# Altium footprint library Connector_Harwin.PcbLib: 102 footprints (part 3 of 7)
Each footprint in its own frame and in the unit in brackets; x right, y up, seen from the top. Pads: shape width x height; smd on the part's side, far side on the other; paste and mask are expansions set on the pad; w line width, h text height; cw(c..) or ccw(c..) is an arc to the next point about the centre after c.
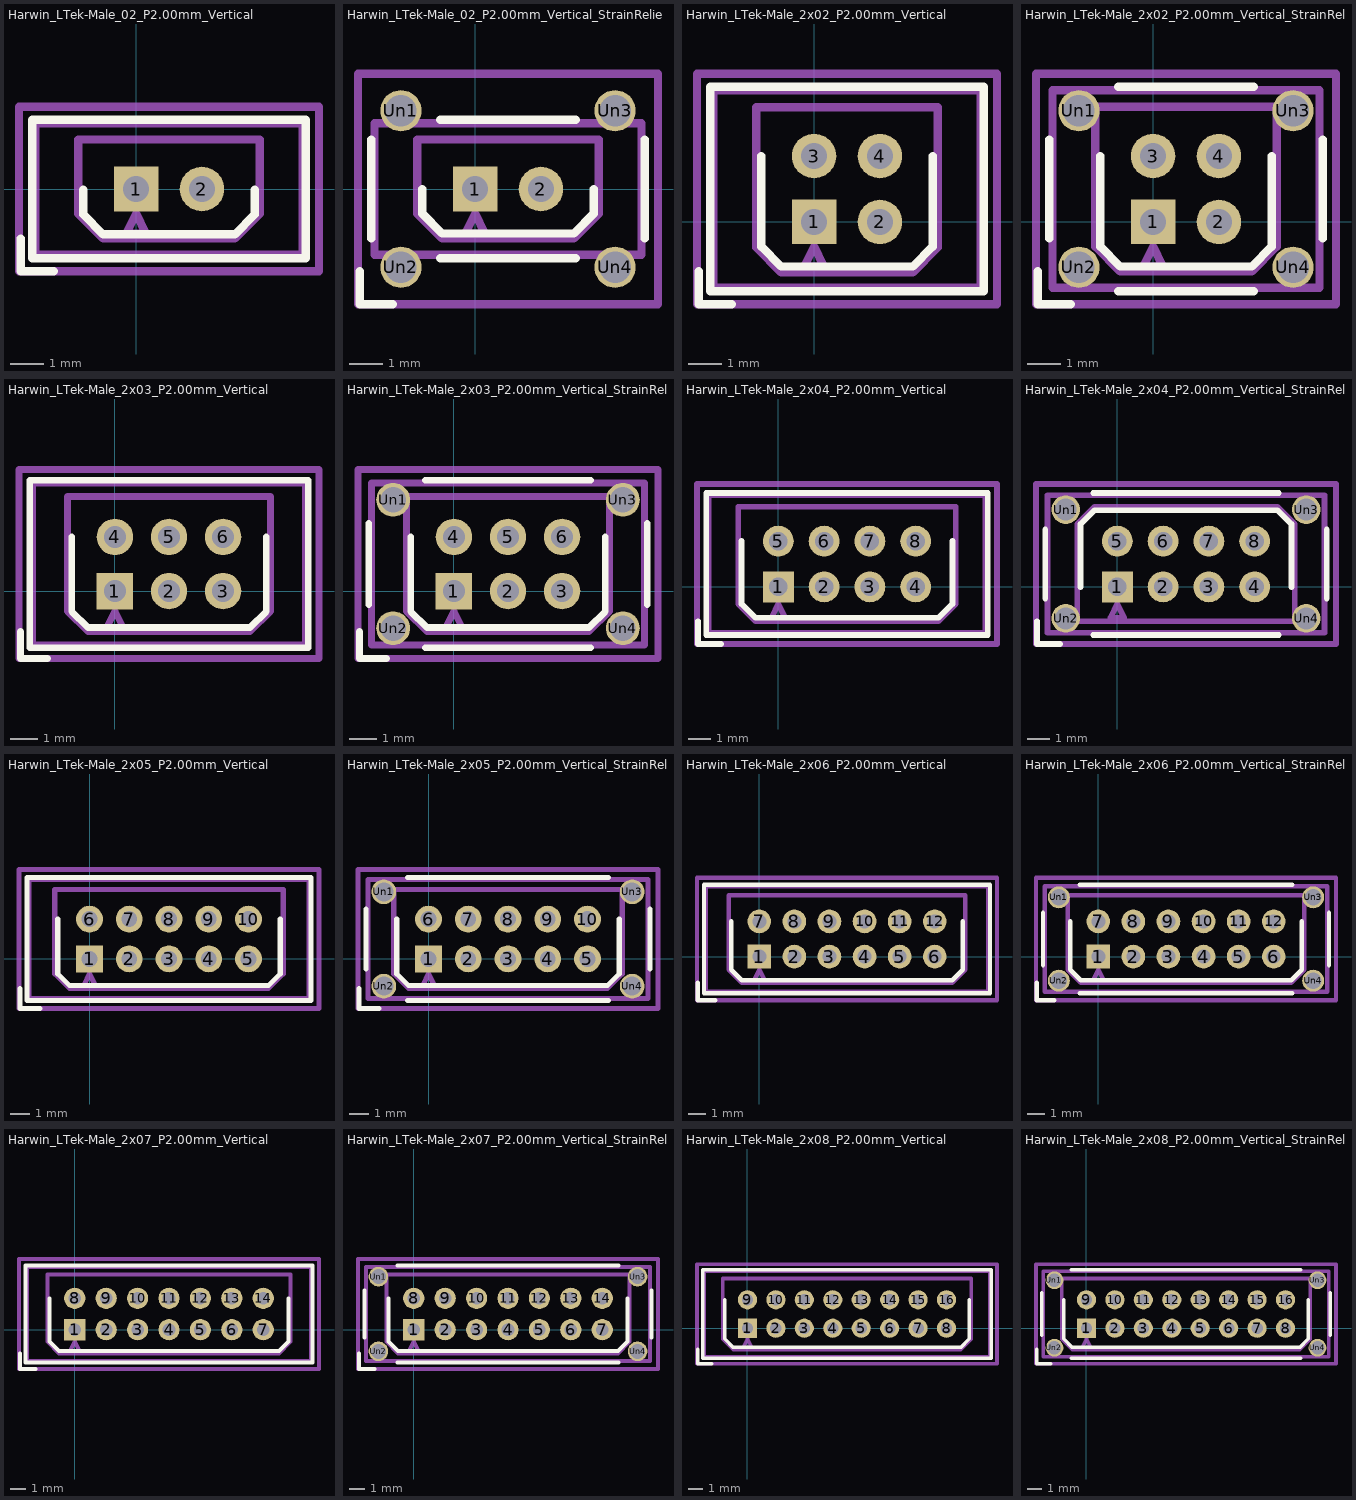
[diagram p2: the footprints below, top view; thin cyan lines are the x and y axes]

## Harwin_LTek-Male_02_P2.00mm_Vertical [mm]
pads (2):
  rect 1.35x1.35 hole 0.8: 1(0,0)
  round 1.35 hole 0.8: 2(2,0)
F.SilkS:
  lines w0.254: -3.5,-1.5 -3.5,-2.5 -2.5,-2.5 ; -1.6,-0.025 -1.6,-0.775 -1,-1.375 1,-1.375 3,-1.375 3.6,-0.775 3.6,-0.025 ; -3.15,-2.1 5.15,-2.1 5.15,2.1 -3.15,2.1 -3.15,-2.1
Top Assembly:
  lines w0.254: -3.05,-2 5.05,-2 5.05,2 -3.05,2 -3.05,-2 ; -1.75,-0.75 -1,-1.5 3,-1.5 3.75,-0.75 3.75,1.5 -1.75,1.5 -1.75,-0.75 ; -0.3,-1.35 0,-0.75 0.3,-1.35 -0.3,-1.35
  text "'.Designator'" at -3.047,-0.84 h1
Top Courtyard:
  lines w0.254: -3.55,-2.5 5.55,-2.5 5.55,2.5 -3.55,2.5 -3.55,-2.5
Top Designator:
  text ".Designator" at -6.618,-0.508 h1.52

## Harwin_LTek-Male_02_P2.00mm_Vertical_StrainRelief [mm]
pads (6):
  rect 1.35x1.35 hole 0.8: 1(0,0)
  round 1.35 hole 0.8: 2(2,0)
  round 1.25 hole 0.95: Un1(-2.25,2.375) Un2(-2.25,-2.375) Un3(4.25,2.375) Un4(4.25,-2.375)
F.SilkS:
  lines w0.254: -3.5,-2.5 -3.5,-3.5 -2.5,-3.5 ; -3.15,-1.5 -3.15,1.5 ; -1.6,0 -1.6,-0.75 -1,-1.35 1,-1.35 3,-1.35 3.6,-0.75 3.6,0 ; -1.05,-2.1 3.05,-2.1 ; -1.05,2.1 3.05,2.1 ; 5.15,-1.5 5.15,1.5
Top Assembly:
  lines w0.254: -3.05,-2 5.05,-2 5.05,2 -3.05,2 -3.05,-2 ; -1.75,-0.75 -1,-1.5 3,-1.5 3.75,-0.75 3.75,1.5 -1.75,1.5 -1.75,-0.75 ; -0.3,-1.35 0,-0.75 0.3,-1.35 -0.3,-1.35
  text "'.Designator'" at -3.047,-0.84 h1
Top Courtyard:
  lines w0.254: -3.55,-3.5 5.55,-3.5 5.55,3.5 -3.55,3.5 -3.55,-3.5
Top Designator:
  text ".Designator" at -6.618,-0.508 h1.52

## Harwin_LTek-Male_2x02_P2.00mm_Vertical [mm]
pads (4):
  rect 1.35x1.35 hole 0.8: 1(0,0)
  round 1.35 hole 0.8: 2(2,0) 3(0,2) 4(2,2)
F.SilkS:
  lines w0.254: -3.5,-1.5 -3.5,-2.5 -2.5,-2.5 ; -1.6,2 -1.6,-0.75 -1,-1.35 1,-1.35 3,-1.35 3.6,-0.75 3.6,2 ; -3.15,-2.1 5.15,-2.1 5.15,4.1 -3.15,4.1 -3.15,-2.1
Top Assembly:
  lines w0.254: -3.05,-2 5.05,-2 5.05,4 -3.05,4 -3.05,-2 ; -1.75,-0.775 -1,-1.525 3,-1.525 3.75,-0.775 3.75,3.475 -1.75,3.475 -1.75,-0.775 ; -0.3,-1.35 0,-0.75 0.3,-1.35 -0.3,-1.35
  text "'.Designator'" at -3.047,-0.84 h1
Top Courtyard:
  lines w0.254: -3.55,-2.5 5.55,-2.5 5.55,4.5 -3.55,4.5 -3.55,-2.5
Top Designator:
  text ".Designator" at -6.618,0.492 h1.52

## Harwin_LTek-Male_2x02_P2.00mm_Vertical_StrainRelief [mm]
pads (8):
  rect 1.35x1.35 hole 0.8: 1(0,0)
  round 1.35 hole 0.8: 2(2,0) 3(0,2) 4(2,2)
  round 1.25 hole 0.95: Un1(-2.25,3.375) Un2(-2.25,-1.375) Un3(4.25,3.375) Un4(4.25,-1.375)
F.SilkS:
  lines w0.254: -3.5,-1.5 -3.5,-2.5 -2.5,-2.5 ; -3.15,-0.5 -3.15,2.5 ; -1.6,2 -1.6,-0.75 -1,-1.35 1,-1.35 3,-1.35 3.6,-0.75 3.6,2 ; -1.05,-2.1 3.05,-2.1 ; -1.05,4.1 3.05,4.1 ; 5.15,-0.5 5.15,2.5
Top Assembly:
  lines w0.254: -3.05,-2 5.05,-2 5.05,4 -3.05,4 -3.05,-2 ; -1.75,-0.75 -1,-1.5 3,-1.5 3.75,-0.75 3.75,3.5 -1.75,3.5 -1.75,-0.75 ; -0.3,-1.35 0,-0.75 0.3,-1.35 -0.3,-1.35
  text "'.Designator'" at -3.047,-0.84 h1
Top Courtyard:
  lines w0.254: -3.55,-2.5 5.55,-2.5 5.55,4.5 -3.55,4.5 -3.55,-2.5
Top Designator:
  text ".Designator" at -6.618,0.492 h1.52

## Harwin_LTek-Male_2x03_P2.00mm_Vertical [mm]
pads (6):
  rect 1.35x1.35 hole 0.8: 1(0,0)
  round 1.35 hole 0.8: 2(2,0) 3(4,0) 4(0,2) 5(2,2) 6(4,2)
F.SilkS:
  lines w0.254: -3.5,-1.5 -3.5,-2.5 -2.5,-2.5 ; -1.6,2 -1.6,-0.75 -1,-1.35 2,-1.35 5,-1.35 5.6,-0.75 5.6,2 ; -3.15,-2.1 7.15,-2.1 7.15,4.1 -3.15,4.1 -3.15,-2.1
Top Assembly:
  lines w0.254: -3.05,-2 7.05,-2 7.05,4 -3.05,4 -3.05,-2 ; -1.75,-0.75 -1,-1.5 5,-1.5 5.75,-0.75 5.75,3.5 -1.75,3.5 -1.75,-0.75 ; -0.3,-1.35 0,-0.75 0.3,-1.35 -0.3,-1.35
  text "'.Designator'" at -2.047,-0.84 h1
Top Courtyard:
  lines w0.254: -3.55,-2.5 7.55,-2.5 7.55,4.5 -3.55,4.5 -3.55,-2.5
Top Designator:
  text ".Designator" at -5.618,0.492 h1.52

## Harwin_LTek-Male_2x03_P2.00mm_Vertical_StrainRelief [mm]
pads (10):
  rect 1.35x1.35 hole 0.8: 1(0,0)
  round 1.35 hole 0.8: 2(2,0) 3(4,0) 4(0,2) 5(2,2) 6(4,2)
  round 1.25 hole 0.95: Un1(-2.25,3.375) Un2(-2.25,-1.375) Un3(6.25,3.375) Un4(6.25,-1.375)
F.SilkS:
  lines w0.254: -3.5,-1.5 -3.5,-2.5 -2.5,-2.5 ; -3.15,-0.5 -3.15,2.5 ; -1.6,2 -1.6,-0.75 -1,-1.35 2,-1.35 5,-1.35 5.6,-0.75 5.6,2 ; -1.05,-2.1 5.05,-2.1 ; -1.05,4.1 5.05,4.1 ; 7.15,-0.5 7.15,2.5
Top Assembly:
  lines w0.254: -3.05,-2 7.05,-2 7.05,4 -3.05,4 -3.05,-2 ; -1.75,-0.75 -1,-1.5 5,-1.5 5.75,-0.75 5.75,3.5 -1.75,3.5 -1.75,-0.75 ; -0.3,-1.35 0,-0.75 0.3,-1.35 -0.3,-1.35
  text "'.Designator'" at -2.047,-0.84 h1
Top Courtyard:
  lines w0.254: -3.55,-2.5 7.55,-2.5 7.55,4.5 -3.55,4.5 -3.55,-2.5
Top Designator:
  text ".Designator" at -5.618,0.492 h1.52

## Harwin_LTek-Male_2x04_P2.00mm_Vertical [mm]
pads (8):
  rect 1.35x1.35 hole 0.8: 1(0,0)
  round 1.35 hole 0.8: 2(2,0) 3(4,0) 4(6,0) 5(0,2) 6(2,2) 7(4,2) 8(6,2)
F.SilkS:
  lines w0.254: -3.5,-1.5 -3.5,-2.5 -2.5,-2.5 ; -1.6,2 -1.6,-0.75 -1,-1.35 3,-1.35 7,-1.35 7.6,-0.75 7.6,2 ; -3.15,-2.1 9.15,-2.1 9.15,4.1 -3.15,4.1 -3.15,-2.1
Top Assembly:
  lines w0.254: -3.05,-2 9.05,-2 9.05,4 -3.05,4 -3.05,-2 ; -1.75,-0.75 -1,-1.5 7,-1.5 7.75,-0.75 7.75,3.5 -1.75,3.5 -1.75,-0.75 ; -0.3,-1.35 0,-0.75 0.3,-1.35 -0.3,-1.35
  text "'.Designator'" at -1.047,-0.84 h1
Top Courtyard:
  lines w0.254: -3.55,-2.5 9.55,-2.5 9.55,4.5 -3.55,4.5 -3.55,-2.5
Top Designator:
  text ".Designator" at -4.618,0.492 h1.52

## Harwin_LTek-Male_2x04_P2.00mm_Vertical_StrainRelief [mm]
pads (12):
  rect 1.35x1.35 hole 0.8: 1(0,0)
  round 1.35 hole 0.8: 2(2,0) 3(4,0) 4(6,0) 5(0,2) 6(2,2) 7(4,2) 8(6,2)
  round 1.25 hole 0.95: Un1(-2.25,3.375) Un2(-2.25,-1.375) Un3(8.25,3.375) Un4(8.25,-1.375)
F.SilkS:
  lines w0.254: -3.5,-1.5 -3.5,-2.5 -2.5,-2.5 ; -3.15,-0.5 -3.15,2.5 ; -1.6,0 -1.6,2.75 -1,3.35 3,3.35 7,3.35 7.6,2.75 7.6,0 ; -1.05,-2.1 7.05,-2.1 ; -1.05,4.1 7.05,4.1 ; 9.15,-0.5 9.15,2.5
Top Assembly:
  lines w0.254: -3.05,-2 9.05,-2 9.05,4 -3.05,4 -3.05,-2 ; -1.75,-1.5 7.75,-1.5 7.75,2.75 7,3.5 -1,3.5 -1.75,2.75 -1.75,-1.5 ; -0.3,-1.35 0,-0.75 0.3,-1.35 -0.3,-1.35
  text "'.Designator'" at -1.047,-0.84 h1
Top Courtyard:
  lines w0.254: -3.55,-2.5 9.55,-2.5 9.55,4.5 -3.55,4.5 -3.55,-2.5
Top Designator:
  text ".Designator" at -4.618,0.492 h1.52

## Harwin_LTek-Male_2x05_P2.00mm_Vertical [mm]
pads (10):
  rect 1.35x1.35 hole 0.8: 1(0,0)
  round 1.35 hole 0.8: 2(2,0) 3(4,0) 4(6,0) 5(8,0) 6(0,2) 7(2,2) 8(4,2) 9(6,2) 10(8,2)
F.SilkS:
  lines w0.254: -3.5,-1.5 -3.5,-2.5 -2.5,-2.5 ; -1.6,2 -1.6,-0.75 -1,-1.35 4,-1.35 9,-1.35 9.6,-0.75 9.6,2 ; -3.15,-2.1 11.15,-2.1 11.15,4.1 -3.15,4.1 -3.15,-2.1
Top Assembly:
  lines w0.254: -3.05,-2 11.05,-2 11.05,4 -3.05,4 -3.05,-2 ; -1.75,-0.75 -1,-1.5 9,-1.5 9.75,-0.75 9.75,3.5 -1.75,3.5 -1.75,-0.75 ; -0.3,-1.35 0,-0.75 0.3,-1.35 -0.3,-1.35
  text "'.Designator'" at -0.047,-0.84 h1
Top Courtyard:
  lines w0.254: -3.55,-2.5 11.55,-2.5 11.55,4.5 -3.55,4.5 -3.55,-2.5
Top Designator:
  text ".Designator" at -3.618,0.492 h1.52

## Harwin_LTek-Male_2x05_P2.00mm_Vertical_StrainRelief [mm]
pads (14):
  rect 1.35x1.35 hole 0.8: 1(0,0)
  round 1.35 hole 0.8: 2(2,0) 3(4,0) 4(6,0) 5(8,0) 6(0,2) 7(2,2) 8(4,2) 9(6,2) 10(8,2)
  round 1.25 hole 0.95: Un1(-2.25,3.375) Un2(-2.25,-1.375) Un3(10.25,3.375) Un4(10.25,-1.375)
F.SilkS:
  lines w0.254: -3.5,-1.5 -3.5,-2.5 -2.5,-2.5 ; -3.15,-0.5 -3.15,2.5 ; -1.6,2 -1.6,-0.75 -1,-1.35 4,-1.35 9,-1.35 9.6,-0.75 9.6,2 ; -1.05,-2.1 9.05,-2.1 ; -1.05,4.1 9.05,4.1 ; 11.15,-0.5 11.15,2.5
Top Assembly:
  lines w0.254: -3.05,-2 11.05,-2 11.05,4 -3.05,4 -3.05,-2 ; -1.75,-0.75 -1,-1.5 9,-1.5 9.75,-0.75 9.75,3.5 -1.75,3.5 -1.75,-0.75 ; -0.3,-1.35 0,-0.75 0.3,-1.35 -0.3,-1.35
  text "'.Designator'" at -0.047,-0.84 h1
Top Courtyard:
  lines w0.254: -3.55,-2.5 11.55,-2.5 11.55,4.5 -3.55,4.5 -3.55,-2.5
Top Designator:
  text ".Designator" at -3.618,0.492 h1.52

## Harwin_LTek-Male_2x06_P2.00mm_Vertical [mm]
pads (12):
  rect 1.35x1.35 hole 0.8: 1(0,0)
  round 1.35 hole 0.8: 2(2,0) 3(4,0) 4(6,0) 5(8,0) 6(10,0) 7(0,2) 8(2,2) 9(4,2) 10(6,2) 11(8,2) 12(10,2)
F.SilkS:
  lines w0.254: -3.5,-1.5 -3.5,-2.5 -2.5,-2.5 ; -1.6,2 -1.6,-0.75 -1,-1.35 5,-1.35 11,-1.35 11.6,-0.75 11.6,2 ; -3.15,-2.1 13.15,-2.1 13.15,4.1 -3.15,4.1 -3.15,-2.1
Top Assembly:
  lines w0.254: -3.05,-2 13.05,-2 13.05,4 -3.05,4 -3.05,-2 ; -1.75,-0.75 -1,-1.5 11,-1.5 11.75,-0.75 11.75,3.5 -1.75,3.5 -1.75,-0.75 ; -0.3,-1.35 0,-0.75 0.3,-1.35 -0.3,-1.35
  text "'.Designator'" at 0.953,-0.84 h1
Top Courtyard:
  lines w0.254: -3.55,-2.5 13.55,-2.5 13.55,4.5 -3.55,4.5 -3.55,-2.5
Top Designator:
  text ".Designator" at -2.618,0.492 h1.52

## Harwin_LTek-Male_2x06_P2.00mm_Vertical_StrainRelief [mm]
pads (16):
  rect 1.35x1.35 hole 0.8: 1(0,0)
  round 1.35 hole 0.8: 2(2,0) 3(4,0) 4(6,0) 5(8,0) 6(10,0) 7(0,2) 8(2,2) 9(4,2) 10(6,2) 11(8,2) 12(10,2)
  round 1.25 hole 0.95: Un1(-2.25,3.375) Un2(-2.25,-1.375) Un3(12.25,3.375) Un4(12.25,-1.375)
F.SilkS:
  lines w0.254: -3.5,-1.5 -3.5,-2.5 -2.5,-2.5 ; -3.15,-0.5 -3.15,2.5 ; -1.6,2 -1.6,-0.75 -1,-1.35 5,-1.35 11,-1.35 11.6,-0.75 11.6,2 ; -1.05,-2.1 11.05,-2.1 ; -1.05,4.1 11.05,4.1 ; 13.15,-0.5 13.15,2.5
Top Assembly:
  lines w0.254: -3.05,-2 13.05,-2 13.05,4 -3.05,4 -3.05,-2 ; -1.75,-0.75 -1,-1.5 11,-1.5 11.75,-0.75 11.75,3.5 -1.75,3.5 -1.75,-0.75 ; -0.3,-1.35 0,-0.75 0.3,-1.35 -0.3,-1.35
  text "'.Designator'" at 0.953,-0.84 h1
Top Courtyard:
  lines w0.254: -3.55,-2.5 13.55,-2.5 13.55,4.5 -3.55,4.5 -3.55,-2.5
Top Designator:
  text ".Designator" at -2.618,0.492 h1.52

## Harwin_LTek-Male_2x07_P2.00mm_Vertical [mm]
pads (14):
  rect 1.35x1.35 hole 0.8: 1(0,0)
  round 1.35 hole 0.8: 2(2,0) 3(4,0) 4(6,0) 5(8,0) 6(10,0) 7(12,0) 8(0,2) 9(2,2) 10(4,2) 11(6,2) 12(8,2) 13(10,2) 14(12,2)
F.SilkS:
  lines w0.254: -3.5,-1.5 -3.5,-2.5 -2.5,-2.5 ; -1.6,2 -1.6,-0.75 -1,-1.35 6,-1.35 13,-1.35 13.6,-0.75 13.6,2 ; -3.15,-2.1 15.15,-2.1 15.15,4.1 -3.15,4.1 -3.15,-2.1
Top Assembly:
  lines w0.254: -3.05,-2 15.05,-2 15.05,4 -3.05,4 -3.05,-2 ; -1.75,-0.75 -1,-1.5 13,-1.5 13.75,-0.75 13.75,3.5 -1.75,3.5 -1.75,-0.75 ; -0.3,-1.35 0,-0.75 0.3,-1.35 -0.3,-1.35
  text "'.Designator'" at 1.953,-0.84 h1
Top Courtyard:
  lines w0.254: -3.55,-2.5 15.55,-2.5 15.55,4.5 -3.55,4.5 -3.55,-2.5
Top Designator:
  text ".Designator" at -1.618,0.492 h1.52

## Harwin_LTek-Male_2x07_P2.00mm_Vertical_StrainRelief [mm]
pads (18):
  rect 1.35x1.35 hole 0.8: 1(0,0)
  round 1.35 hole 0.8: 2(2,0) 3(4,0) 4(6,0) 5(8,0) 6(10,0) 7(12,0) 8(0,2) 9(2,2) 10(4,2) 11(6,2) 12(8,2) 13(10,2) 14(12,2)
  round 1.25 hole 0.95: Un1(-2.25,3.375) Un2(-2.25,-1.375) Un3(14.25,3.375) Un4(14.25,-1.375)
F.SilkS:
  lines w0.254: -3.5,-1.5 -3.5,-2.5 -2.5,-2.5 ; -3.15,-0.5 -3.15,2.5 ; -1.6,2 -1.6,-0.75 -1,-1.35 6,-1.35 13,-1.35 13.6,-0.75 13.6,2 ; -1.05,-2.1 13.05,-2.1 ; -1.05,4.1 13.05,4.1 ; 15.15,-0.5 15.15,2.5
Top Assembly:
  lines w0.254: -3.05,-2 15.05,-2 15.05,4 -3.05,4 -3.05,-2 ; -1.75,-0.75 -1,-1.5 13,-1.5 13.75,-0.75 13.75,3.5 -1.75,3.5 -1.75,-0.75 ; -0.3,-1.35 0,-0.75 0.3,-1.35 -0.3,-1.35
  text "'.Designator'" at 1.953,-0.84 h1
Top Courtyard:
  lines w0.254: -3.55,-2.5 15.55,-2.5 15.55,4.5 -3.55,4.5 -3.55,-2.5
Top Designator:
  text ".Designator" at -1.618,0.492 h1.52

## Harwin_LTek-Male_2x08_P2.00mm_Vertical [mm]
pads (16):
  rect 1.35x1.35 hole 0.8: 1(0,0)
  round 1.35 hole 0.8: 2(2,0) 3(4,0) 4(6,0) 5(8,0) 6(10,0) 7(12,0) 8(14,0) 9(0,2) 10(2,2) 11(4,2) 12(6,2) 13(8,2) 14(10,2) 15(12,2) 16(14,2)
F.SilkS:
  lines w0.254: -3.5,-1.5 -3.5,-2.5 -2.5,-2.5 ; -1.6,2 -1.6,-0.75 -1,-1.35 7,-1.35 15,-1.35 15.6,-0.75 15.6,2 ; -3.15,-2.1 17.15,-2.1 17.15,4.1 -3.15,4.1 -3.15,-2.1
Top Assembly:
  lines w0.254: -3.05,-2 17.05,-2 17.05,4 -3.05,4 -3.05,-2 ; -1.75,-0.75 -1,-1.5 15,-1.5 15.75,-0.75 15.75,3.5 -1.75,3.5 -1.75,-0.75 ; -0.3,-1.35 0,-0.75 0.3,-1.35 -0.3,-1.35
  text "'.Designator'" at 2.953,-0.84 h1
Top Courtyard:
  lines w0.254: -3.55,-2.5 17.55,-2.5 17.55,4.5 -3.55,4.5 -3.55,-2.5
Top Designator:
  text ".Designator" at -0.618,0.492 h1.52

## Harwin_LTek-Male_2x08_P2.00mm_Vertical_StrainRelief [mm]
pads (20):
  rect 1.35x1.35 hole 0.8: 1(0,0)
  round 1.35 hole 0.8: 2(2,0) 3(4,0) 4(6,0) 5(8,0) 6(10,0) 7(12,0) 8(14,0) 9(0,2) 10(2,2) 11(4,2) 12(6,2) 13(8,2) 14(10,2) 15(12,2) 16(14,2)
  round 1.25 hole 0.95: Un1(-2.25,3.375) Un2(-2.25,-1.375) Un3(16.25,3.375) Un4(16.25,-1.375)
F.SilkS:
  lines w0.254: -3.5,-1.5 -3.5,-2.5 -2.5,-2.5 ; -3.15,-0.5 -3.15,2.5 ; -1.6,2 -1.6,-0.75 -1,-1.35 7,-1.35 15,-1.35 15.6,-0.75 15.6,2 ; -1.05,-2.1 15.05,-2.1 ; -1.05,4.1 15.05,4.1 ; 17.15,-0.5 17.15,2.5
Top Assembly:
  lines w0.254: -3.05,-2 17.05,-2 17.05,4 -3.05,4 -3.05,-2 ; -1.75,-0.75 -1,-1.5 15,-1.5 15.75,-0.75 15.75,3.5 -1.75,3.5 -1.75,-0.75 ; -0.3,-1.35 0,-0.75 0.3,-1.35 -0.3,-1.35
  text "'.Designator'" at 2.953,-0.84 h1
Top Courtyard:
  lines w0.254: -3.55,-2.5 17.55,-2.5 17.55,4.5 -3.55,4.5 -3.55,-2.5
Top Designator:
  text ".Designator" at -0.618,0.492 h1.52